# Altium schematic symbol library CW_Schlib.SchLib: 25 symbols (part 1 of 2)
Pins are listed as number, name and electrical type; pins without a type are passive.

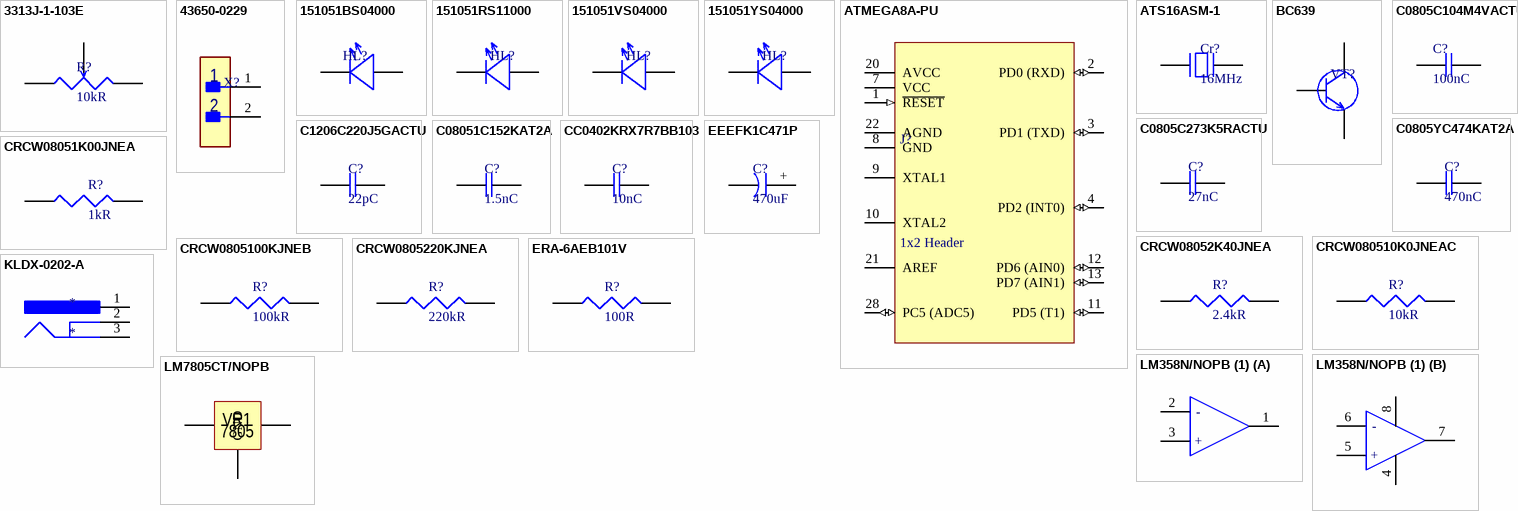
[diagram p0: symbols 3313J-1-103E to LM7805CT/NOPB]

## 3313J-1-103E
designator R?, comment 10kR
BOURNS 3313J-1-103E             TRIMMER, 10KOHM, 125mW, SMD; Tolerance: 20%; Number of Turns: 1; Temperature Coefficient: 100ppm/°C; Voltage Rating (DC): 500V; Insulation Resistance: 100MR; Supplier 1: Digi-Key; Supplier Part Number 1: 3313J-103ECT-ND; Manufacturer: Bourns; Manufacturer Part Number: 3313J-1-103E; RoHS: Yes; Category: Variable Resistors and Potentiometers; Stock 1: 968; Pricing 1: 1=1,82000, 10=1,59500, 25=1,43000, 50=1,37500, 100=1,32000, 250=1,26500, 500=1,04500 (USD); Mount: Surface Mount; Weight: 283mg; Color: Natural; Min Operating Temperature: -55°C; Max Operating Temperature: 125°C; Package Quantity: 1000; Resistance: 10kR; Power Rating: 125mW; Packaging: Tape and Reel; Resistor Type: Cermet; Termination: J-Hook; Max Power Dissipation: 125mW; Series: Trimpot® 3313 - Sealed; Technology: CERMET; Taper: Linear; Type: Potentiometer; Resistance Tolerance: 20%; Length: 3.2mm; Width: 0.126inch; Height: 2.2mm; Depth: 3.5mm; Radiation Hardening: No; Military Standard: Not; REACH SVHC: No SVHC; Lead Free: Lead Free; RoHS Compliant: Yes; ComponentLink1URL: https://datasheet.ciiva.com/6197/1719390-6197392.pdf?src-supplier=Farnell; ComponentLink1Description: https://datasheet.ciiva.com/6197/1719390-6197392.pdf?src-supplier=Farnell; ComponentLink2URL: https://datasheet.ciiva.com/11831/0900766b80dbb89c-11831555.pdf?src-supplier=RSComponents; ComponentLink2Description: https://datasheet.ciiva.com/11831/0900766b80dbb89c-11831555.pdf?src-supplier=RSComponents; ComponentLink3URL: https://datasheet.ciiva.com/2156/3313-2156354.pdf?src-supplier=Digi-Key; ComponentLink3Description: https://datasheet.ciiva.com/2156/3313-2156354.pdf?src-supplier=Digi-Key; ComponentLink4URL: https://datasheet.ciiva.com/2156/3313-2156355.pdf?src-supplier=Digi-Key; ComponentLink4Description: https://datasheet.ciiva.com/2156/3313-2156355.pdf?src-supplier=Digi-Key; ComponentLink5URL: https://datasheet.ciiva.com/2156/3313-2156356.pdf?src-supplier=Digi-Key; ComponentLink5Description: https://datasheet.ciiva.com/2156/3313-2156356.pdf?src-supplier=Digi-Key; ComponentLink6URL: https://datasheet.ciiva.com/43573/1157501-43573718.pdf?src-supplier=Jameco; ComponentLink6Description: https://datasheet.ciiva.com/43573/1157501-43573718.pdf?src-supplier=Jameco; ComponentLink7URL: https://datasheet.ciiva.com/28659/1770668-28659191.pdf?src-supplier=Element14; ComponentLink7Description: https://datasheet.ciiva.com/28659/1770668-28659191.pdf?src-supplier=Element14; ComponentLink8URL: https://datasheet.ciiva.com/16812/3313-16812088.pdf?src-supplier=Avnet+Europe; ComponentLink8Description: https://datasheet.ciiva.com/16812/3313-16812088.pdf?src-supplier=Avnet+Europe; ComponentLink9URL: https://datasheet.ciiva.com/7953/1864507-7953225.pdf?src-supplier=Element14; ComponentLink9Description: https://datasheet.ciiva.com/7953/1864507-7953225.pdf?src-supplier=Element14; ComponentLink10URL: https://datasheet.ciiva.com/16715/70153423-16715693.pdf?src-supplier=Allied+Electronics; ComponentLink10Description: https://datasheet.ciiva.com/16715/70153423-16715693.pdf?src-supplier=Allied+Electronics
footprint Potentiometer
pins: 1, 2, 3

## 43650-0229
designator X?, comment ConnectorAudio  (value not drawn)
MOLEX - 43650-0229 - Wire-To-Board Connector, 3 mm, 2 Contacts, Header, Micro-Fit 3.0 43650 Series, Through Hole, 1 Rows; Number of Contacts: 2; Gender: Male; Voltage Rating: 600V; Current Rating: 5A; Pitch: 3mm; Glow Wire Compliant: Compliant; Supplier 1: Digi-Key; Supplier Part Number 1: WM10662-ND; Manufacturer: Molex; Manufacturer Part Number: 43650-0229; RoHS: Yes; Category: Headers and Wire Housings; Stock 1: 5963; Pricing 1: 1=1,21000, 10=1,00100, 440=0,83407, 3264=0,60469, 6528=0,58384, 13056=0,54214 (USD); Mount: Through Hole; Contact Plating: Gold; Contact Material: Brass; Housing Material: Thermoplastic; Packaging: Tray; Termination: Through Hole; Orientation: Vertical; Package Quantity: 3264; Series: 43650; Number of Rows: 1; Number of Positions: 2; Number of Circuits: 2; Radiation Hardening: No; RoHS Compliant: Yes; Halogen Free: Low Halogen; ComponentLink1URL: https://datasheet.ciiva.com/13564/0436500229-pcb-headers-148697-13564517.pdf?src-supplier=Mouser; ComponentLink1Description: https://datasheet.ciiva.com/13564/0436500229-pcb-headers-148697-13564517.pdf?src-supplier=Mouser; ComponentLink2URL: https://datasheet.ciiva.com/16654/0436500229-pcb-headers-16654485.pdf?src-supplier=Avnet+Europe; ComponentLink2Description: https://datasheet.ciiva.com/16654/0436500229-pcb-headers-16654485.pdf?src-supplier=Avnet+Europe
footprint AudioConnector
pins: 1, 2

## 151051BS04000
designator HL?, comment blue led  (value not drawn)
WURTH ELEKTRONIK - 151051BS04000 - LED, 5MM, BLUE, 500MCD, 470NM; Manufacturer: Wurth Electronics; Lens Style: Diffused,Circular,Round; Forward Voltage: 3.2V; Forward Current: 30mA; Viewing Angle: 40°; Test Current: 20mA; Supplier 1: Digi-Key; Supplier Part Number 1: 732-5015-ND; Manufacturer Part Number: 151051BS04000; RoHS: Yes; Category: LEDs; Stock 1: 14295; Pricing 1: 1=0,25000, 50=0,23000, 100=0,19800, 500=0,18600 (USD); Mount: Through Hole; Case/Package: Radial; Color: Blue; Min Operating Temperature: -40°C; Max Operating Temperature: 85°C; Packaging: Bulk; Luminous Intensity: 500mcd; Dominant Wavelength: 470nm; Package Quantity: 1; Wavelength: 470nm; Height: 8.9mm; Lens Size: 5mm; RoHS Compliant: Yes; REACH SVHC: Unknown; ComponentLink1URL: https://datasheet.ciiva.com/23843/151051bs04000-23843280.pdf?src-supplier=Newark; ComponentLink1Description: https://datasheet.ciiva.com/23843/151051bs04000-23843280.pdf?src-supplier=Newark; ComponentLink2URL: https://datasheet.ciiva.com/29363/759492-da-01-en-tht-led-5mm-blau-151051bs04000-29363825.pdf?src-supplier=Conrad; ComponentLink2Description: https://datasheet.ciiva.com/29363/759492-da-01-en-tht-led-5mm-blau-151051bs04000-29363825.pdf?src-supplier=Conrad; ComponentLink3URL: https://datasheet.ciiva.com/29562/151051bs04000-29562902.pdf?src-supplier=Digi-Key; ComponentLink3Description: https://datasheet.ciiva.com/29562/151051bs04000-29562902.pdf?src-supplier=Digi-Key
footprint LEDblue
pins: 1 -, 2 +

## 151051RS11000
designator HL?, comment red led  (value not drawn)
WURTH ELEKTRONIK - 151051RS11000 - LED, Red, Through Hole, T-1 3/4 (5mm), 30 mA, 2.1 V, 630 nm; Manufacturer: Wurth Electronics; Forward Voltage: 2.1V; Test Current: 20mA; Luminous Intensity: 30mcd; Viewing Angle: 60°; Lens Style: Diffused,Round,Circular; Dominant Wavelength: 645nm; Forward Current: 30mA; Wavelength: 630nm; Supplier 1: Digi-Key; Supplier Part Number 1: 732-5016-ND; Manufacturer Part Number: 151051RS11000; RoHS: Yes; Category: LEDs; Stock 1: 6443; Pricing 1: 1=0,16000, 50=0,14500, 100=0,12500, 500=0,12000 (USD); Mount: Through Hole; Case/Package: Radial; Color: Red; Min Operating Temperature: -40°C; Max Operating Temperature: 85°C; Package Quantity: 1; Height: 8.9mm; Lens Size: 5mm; RoHS Compliant: Yes; REACH SVHC: Unknown; ComponentLink1URL: https://datasheet.ciiva.com/23843/151051rs11000-23843281.pdf?src-supplier=Newark; ComponentLink1Description: https://datasheet.ciiva.com/23843/151051rs11000-23843281.pdf?src-supplier=Newark; ComponentLink2URL: https://datasheet.ciiva.com/29335/759488-da-01-en-tht-led-5mm-rot-151051rs11000-29335455.pdf?src-supplier=Conrad; ComponentLink2Description: https://datasheet.ciiva.com/29335/759488-da-01-en-tht-led-5mm-rot-151051rs11000-29335455.pdf?src-supplier=Conrad; ComponentLink3URL: https://datasheet.ciiva.com/22657/1911506-22657034.pdf?src-supplier=Element14; ComponentLink3Description: https://datasheet.ciiva.com/22657/1911506-22657034.pdf?src-supplier=Element14; ComponentLink4URL: https://datasheet.ciiva.com/29562/151051rs11000-29562906.pdf?src-supplier=Digi-Key; ComponentLink4Description: https://datasheet.ciiva.com/29562/151051rs11000-29562906.pdf?src-supplier=Digi-Key
footprint LEDred
pins: 1 -, 2 +

## 151051VS04000
designator HL?, comment green led  (value not drawn)
WURTH ELEKTRONIK - 151051VS04000 - LED, Green, Through Hole, T-1 3/4 (5mm), 30 mA, 2.1 V, 572 nm; Manufacturer: Wurth Electronics; Forward Voltage: 2.1V; Luminous Intensity: 140mcd; Forward Current: 30mA; Lens Style: Diffused,Circular,Round; Test Current: 20mA; Dominant Wavelength: 572nm; Viewing Angle: 40°; Supplier 1: Digi-Key; Supplier Part Number 1: 732-5017-ND; Manufacturer Part Number: 151051VS04000; RoHS: Yes; Category: LEDs; Stock 1: 5536; Pricing 1: 1=0,25000, 50=0,23000, 100=0,19800, 500=0,18600 (USD); Mount: Through Hole; Case/Package: Radial; Color: Green; Min Operating Temperature: -40°C; Max Operating Temperature: 85°C; Package Quantity: 1; Wavelength: 572nm; Height: 8.9mm; Lens Size: 5mm; RoHS Compliant: Yes; REACH SVHC: Unknown; ComponentLink1URL: https://datasheet.ciiva.com/23843/151051vs04000-23843282.pdf?src-supplier=Newark; ComponentLink1Description: https://datasheet.ciiva.com/23843/151051vs04000-23843282.pdf?src-supplier=Newark; ComponentLink2URL: https://datasheet.ciiva.com/29363/759491-da-01-en-tht-led-5mm-b-gruen-151051vs04000-29363828.pdf?src-supplier=Conrad; ComponentLink2Description: https://datasheet.ciiva.com/29363/759491-da-01-en-tht-led-5mm-b-gruen-151051vs04000-29363828.pdf?src-supplier=Conrad; ComponentLink3URL: https://datasheet.ciiva.com/29562/151051vs04000-29562903.pdf?src-supplier=Digi-Key; ComponentLink3Description: https://datasheet.ciiva.com/29562/151051vs04000-29562903.pdf?src-supplier=Digi-Key; ComponentLink4URL: https://datasheet.ciiva.com/48429/151051vs04000-eng-tds-48429978.pdf?src-supplier=Distrelec; ComponentLink4Description: https://datasheet.ciiva.com/48429/151051vs04000-eng-tds-48429978.pdf?src-supplier=Distrelec
footprint LEDgreen
pins: 1 -, 2 +

## 151051YS04000
designator HL?, comment yellow led  (value not drawn)
WURTH ELEKTRONIK - 151051YS04000 - LED, Yellow, Through Hole, T-1 3/4 (5mm), 30 mA, 2 V, 590 nm; Manufacturer: Wurth Electronics; Luminous Intensity: 450mcd; Viewing Angle: 40°; Forward Voltage: 2V; Lens Style: Diffused,Round,Circular; Test Current: 20mA; Forward Current: 30mA; Wavelength: 590nm; Supplier 1: Digi-Key; Supplier Part Number 1: 732-5018-ND; Manufacturer Part Number: 151051YS04000; RoHS: Yes; Category: LEDs; Stock 1: 1858; Pricing 1: 1=0,21000, 50=0,19800, 100=0,17100, 500=0,16050 (USD); Mount: Through Hole; Case/Package: Radial; Color: Yellow; Min Operating Temperature: -40°C; Max Operating Temperature: 85°C; Package Quantity: 1; Dominant Wavelength: 590nm; Height: 8.9mm; Lens Size: 5mm; RoHS Compliant: Yes; REACH SVHC: Unknown; ComponentLink1URL: https://datasheet.ciiva.com/29562/151051ys04000-29562897.pdf?src-supplier=Digi-Key; ComponentLink1Description: https://datasheet.ciiva.com/29562/151051ys04000-29562897.pdf?src-supplier=Digi-Key; ComponentLink2URL: https://datasheet.ciiva.com/29335/759489-da-01-en-tht-led-5mm-gelb-151051ys04000-29335459.pdf?src-supplier=Conrad; ComponentLink2Description: https://datasheet.ciiva.com/29335/759489-da-01-en-tht-led-5mm-gelb-151051ys04000-29335459.pdf?src-supplier=Conrad; ComponentLink3URL: https://datasheet.ciiva.com/48429/151051ys04000-eng-tds-48429979.pdf?src-supplier=Distrelec; ComponentLink3Description: https://datasheet.ciiva.com/48429/151051ys04000-eng-tds-48429979.pdf?src-supplier=Distrelec
footprint LEDyellow
pins: 1 -, 2 +

## ATMEGA8A-PU
designator J?, comment 1x2 Header
MCU 8-bit ATmega AVR RISC 8KB Flash 3.3V/5V 28-Pin PDIP; Manufacturer: Microchip / Atmel; Manufacturer Part Number: ATMEGA8A-PU; Frequency: 16MHz; Interface: SPI,USART,I2C,UART; Number of I/Os: 23; Oscillator Type: Internal; Peripherals: Brown-out Detect/Reset,POR,PWM,WDT; RAM Size: 1KB; Max Supply Voltage: 5.5V; Min Supply Voltage: 2.7V; Number of Timers/Counters: 3; Number of ADC Channels: 6; Data Bus Width: 8b; Number of SPI Channels: 1; Watchdog Timer: Yes; RoHS: Yes; Category: Microcontrollers; Stock 1: 7653; Pricing 1: 1=2,66000, 25=2,43120, 100=2,20000 (USD); Mount: Through Hole; Case/Package: PDIP; Number of Pins: 28; Contact Plating: Tin,Matte; Min Operating Temperature: -40°C; Max Operating Temperature: 85°C; Core Architecture: AVR; Packaging: Rail/Tube; Package Quantity: 14; Memory Type: FLASH; Memory Size: 8KB; Number of PWM Channels: 3; Number of Programmable I/O: 23; Max Frequency: 16MHz; Number of I2C Channels: 1; Series: AVR® ATmega; Length: 34.8mm; Width: 7.49mm; Height: 4.572mm; Radiation Hardening: No; REACH SVHC: No SVHC; Lead Free: Lead Free; RoHS Compliant: Yes; ComponentLink1URL: https://datasheet.ciiva.com/15213/getdatasheetpartid-316011-15213203.pdf?src-supplier=Verical; ComponentLink1Description: https://datasheet.ciiva.com/15213/getdatasheetpartid-316011-15213203.pdf?src-supplier=Verical; ComponentLink2URL: https://datasheet.ciiva.com/26818/atmega8a-pu-26818556.pdf?src-supplier=IIIC; ComponentLink2Description: https://datasheet.ciiva.com/26818/atmega8a-pu-26818556.pdf?src-supplier=IIIC; ComponentLink3URL: https://datasheet.ciiva.com/24154/atmel-8159-8-bit-avr-microcontroller-atmega8a-summary-24154172.pdf?src-supplier=Future+Electronics; ComponentLink3Description: https://datasheet.ciiva.com/24154/atmel-8159-8-bit-avr-microcontroller-atmega8a-summary-24154172.pdf?src-supplier=Future+Electronics; ComponentLink4URL: https://datasheet.ciiva.com/6658/8159s-6658029.pdf?src-supplier=Digi-Key; ComponentLink4Description: https://datasheet.ciiva.com/6658/8159s-6658029.pdf?src-supplier=Digi-Key; Parameter 1: *; Parameter 2: *; Supplier 1: Digi-Key; Supplier Part Number 1: ATMEGA8A-PU-ND
footprint ATmega8
pins: 1 ~{RESET} (in), 2 PD0 (RXD) (io), 3 PD1 (TXD) (io), 4 PD2 (INT0) (io), 7 VCC (power), 8 GND (power), 9 XTAL1, 10 XTAL2, 11 PD5 (T1) (io), 12 PD6 (AIN0) (io), 13 PD7 (AIN1) (io), 20 AVCC (power), 21 AREF, 22 AGND (power), 28 PC5 (ADC5) (io)

## ATS16ASM-1
designator Cr?, comment 16MHz
CRYSTAL 16.0MHZ 20PF SMD; Manufacturer: CTS; Manufacturer Part Number: ATS16ASM-1; Frequency Tolerance: 30ppm; ESR (Equivalent Series Resistance): 40R; Frequency Stability: 50ppm; Supplier 1: Digi-Key; Supplier Part Number 1: CTX1440CT-ND; RoHS: Yes; Category: Crystals; Stock 1: 949; Pricing 1: 1=0,37000, 10=0,30500, 50=0,27440, 100=0,24400, 500=0,23180 (USD); Mount: Surface Mount; Number of Pins: 2; Min Operating Temperature: -20°C; Max Operating Temperature: 70°C; Frequency: 16MHz; Load Capacitance: 20pF; Packaging: Tape and Reel; Package Quantity: 1000; Tolerance: 30ppm; Termination: SMD/SMT; Series: ATS-SM; Series Resistance: 40R; Length: 0.437inch; Width: 0.19inch; Height: 0.169inch; RoHS Compliant: Yes; ComponentLink1URL: https://datasheet.ciiva.com/861/008-0309-0-861005.pdf?src-supplier=Digi-Key; ComponentLink1Description: https://datasheet.ciiva.com/861/008-0309-0-861005.pdf?src-supplier=Digi-Key
footprint Crystal
pins: 1, 2

## BC639
designator VT?  (value not drawn)
TRANS NPN 80V 1A TO-92; Manufacturer: ON Semiconductor / Fairchild; Manufacturer Part Number: BC639; Max Power Dissipation: 625mW; Transition Frequency: 200MHz; Emitter Base Voltage (VEBO): 5V; Collector Emitter Saturation Voltage: 500mV; Element Configuration: Single; Frequency: 100MHz; hFE Min: 40; Number of Elements: 1; Power Dissipation: 1W; Supplier 1: Avnet; Supplier Part Number 1: BC639; RoHS: No; Category: BJTs; Stock 1: 10708; Pricing 1: 5342=0,06646, 5400=0,06552, 11000=0,06365, 27000=0,06224, 54000=0,05990, 270000=0,05850, 540000=0,05710 (USD); Mount: Through Hole; Case/Package: TO-92; Number of Pins: 3; Contact Plating: Copper,Tin,Silver; Weight: 0.201g; Min Operating Temperature: -55°C; Max Operating Temperature: 150°C; Package Quantity: 5000; Collector Emitter Voltage (VCEO): 80V; Packaging: Bulk; Max Collector Current: 1A; Polarity: NPN; Collector Emitter Breakdown Voltage: 80V; Gain Bandwidth Product: 200MHz; Voltage Rating (DC): 80V; Current Rating: 1A; Collector Base Voltage (VCBO): 80V; Max Breakdown Voltage: 80V; Collector-emitter Voltage-Max: 500mV; Series: -; Termination: Through Hole; Lead Free: Lead Free; REACH SVHC: No SVHC; RoHS Compliant: No; ComponentLink1URL: https://datasheet.ciiva.com/982/bc639-982480.pdf?src-supplier=Digi-Key; ComponentLink1Description: https://datasheet.ciiva.com/982/bc639-982480.pdf?src-supplier=Digi-Key; ComponentLink2URL: https://datasheet.ciiva.com/986/bc635-637-639rev5-986450.pdf?src-supplier=Digi-Key; ComponentLink2Description: https://datasheet.ciiva.com/986/bc635-637-639rev5-986450.pdf?src-supplier=Digi-Key; ComponentLink3URL: https://datasheet.ciiva.com/17179/bc63916-17179413.pdf?src-supplier=Future+Electronics; ComponentLink3Description: https://datasheet.ciiva.com/17179/bc63916-17179413.pdf?src-supplier=Future+Electronics; ComponentLink4URL: https://datasheet.ciiva.com/1195/5224-1195640.pdf?src-supplier=Element14; ComponentLink4Description: https://datasheet.ciiva.com/1195/5224-1195640.pdf?src-supplier=Element14; ComponentLink5URL: https://datasheet.ciiva.com/1195/5224-1195641.pdf?src-supplier=Element14; ComponentLink5Description: https://datasheet.ciiva.com/1195/5224-1195641.pdf?src-supplier=Element14; ComponentLink6URL: https://datasheet.ciiva.com/1217/5224-1217209.pdf?src-supplier=Farnell; ComponentLink6Description: https://datasheet.ciiva.com/1217/5224-1217209.pdf?src-supplier=Farnell
footprint BC639
pins: 1, 2, 3 GND

## C0805C104M4VACTU
designator C?, comment 100nC
CAP CER 0.1UF 16V 20% Y5V 0805; Manufacturer: KEMET; Manufacturer Part Number: C0805C104M4VACTU; Dielectric Material: Ceramic; Capacitance: 100nF; Dissipation Factor: 7%; Supplier 1: Digi-Key; Supplier Part Number 1: 399-9156-1-ND; RoHS: Yes; Category: Ceramic Capacitors; Stock 1: 9052; Pricing 1: 1=0,13000, 10=0,09600, 50=0,05440, 100=0,04500, 500=0,03156, 1000=0,02613 (USD); Mount: Surface Mount; Case/Package: 0805; Case Code (Metric): 2012; Case Code (Imperial): 0805; Min Operating Temperature: -30°C; Max Operating Temperature: 85°C; Package Quantity: 1; Voltage Rating: 16V; Tolerance: 20%; Packaging: Tape and Reel; Voltage Rating (DC): 16V; Dielectric: Y5V; Termination: SMD/SMT; Series: C; Length: 0.079inch; Width: 0.049inch; Height: 0.9mm; Thickness: 0.035inch; Lead Pitch: 0.75mm; Depth: 1.25mm; Lead Free: Lead Free; RoHS Compliant: Yes; ComponentLink1URL: http://www.mouser.com/ds/2/212/KEM_C1005_Y5V_SMD-1101305.pdf?src-supplier=Mouser; ComponentLink1Description: http://www.mouser.com/ds/2/212/KEM_C1005_Y5V_SMD-1101305.pdf?src-supplier=Mouser; ComponentLink2URL: https://api.kemet.com/component-edge/download/datasheet/C0805C104M4VACTU.pdf?src-supplier=Digi-Key; ComponentLink2Description: https://api.kemet.com/component-edge/download/datasheet/C0805C104M4VACTU.pdf?src-supplier=Digi-Key
footprint C100nF
pins: 1, 2

## C0805C273K5RACTU
designator C?, comment 27nC
CAP CER 0.027UF 50V X7R 0805; Manufacturer: KEMET; Manufacturer Part Number: C0805C273K5RACTU; Dielectric Material: Ceramic; Capacitance: 27nF; Tolerance: 10%; Dissipation Factor: 2.5%; Supplier 1: Digi-Key; Supplier Part Number 1: 399-1164-1-ND; RoHS: Yes; Category: Ceramic Capacitors; Stock 1: 100815; Pricing 1: 1=0,11000, 10=0,08100, 50=0,04580, 100=0,03800, 500=0,02666, 1000=0,02207 (USD); Mount: Surface Mount,PCB; Case/Package: 0805; Number of Pins: 2; Case Code (Metric): 2012; Case Code (Imperial): 0805; Min Operating Temperature: -55°C; Max Operating Temperature: 125°C; Voltage Rating: 50V; Packaging: Tape and Reel; Package Quantity: 1; Voltage Rating (DC): 50V; Dielectric: X7R; Termination: SMD/SMT; Series: C; Construction: Flat; Voltage: 50V; Length: 2mm; Width: 0.049inch; Height: 0.78mm; Thickness: 0.035inch; Depth: 1.25mm; Lead Pitch: 0.75mm; Radiation Hardening: No; RoHS Compliant: Yes; REACH SVHC: No SVHC; ComponentLink1URL: https://datasheet.ciiva.com/14593/70095383-14593543.pdf?src-supplier=Allied+Electronics; ComponentLink1Description: https://datasheet.ciiva.com/14593/70095383-14593543.pdf?src-supplier=Allied+Electronics; ComponentLink2URL: https://datasheet.ciiva.com/14592/70095383-14592123.pdf?src-supplier=Allied+Electronics; ComponentLink2Description: https://datasheet.ciiva.com/14592/70095383-14592123.pdf?src-supplier=Allied+Electronics; ComponentLink3URL: https://datasheet.ciiva.com/7842/1918693-7842589.pdf?src-supplier=Element14; ComponentLink3Description: https://datasheet.ciiva.com/7842/1918693-7842589.pdf?src-supplier=Element14; ComponentLink4URL: https://datasheet.ciiva.com/7842/kem-c1002-x7r-smd-7842590.pdf?src-supplier=Element14; ComponentLink4Description: https://datasheet.ciiva.com/7842/kem-c1002-x7r-smd-7842590.pdf?src-supplier=Element14
footprint C27nF
pins: 1, 2

## C0805YC474KAT2A
designator C?, comment 470nC
CAP, X7R, 470NF, 16V, 0805, FULL REEL; Manufacturer: Kyocera AVX; Manufacturer Part Number: 0805YC474KAT2A; Tolerance: 10%; Dissipation Factor: 3.5%; Insulation Resistance: 100GR; Supplier 1: Digi-Key; Supplier Part Number 1: 478-1403-1-ND; RoHS: Yes; Category: Ceramic Capacitors; Stock 1: 8545; Pricing 1: 1=0,27000, 10=0,18100, 50=0,10840, 100=0,09160, 500=0,06268, 1000=0,05544 (USD); Mount: Surface Mount,PCB; Case/Package: 0805; Number of Pins: 2; Case Code (Imperial): 0805; Case Code (Metric): 2012; Contact Plating: Tin,Matte; Min Operating Temperature: -55°C; Max Operating Temperature: 125°C; Packaging: Tape and Reel; Capacitance: 470nF; Voltage Rating: 16V; Dielectric: X7R; Voltage: 16V; Voltage Rating (DC): 16V; Package Quantity: 1; Termination: SMD/SMT; Series: -; Construction: Flat; Length: 2.01mm; Width: 1.25mm; Height: 1.4mm; Depth: 1.25mm; Thickness: 0.055inch; Size: 1.4mm; Radiation Hardening: No; RoHS Compliant: Yes; REACH SVHC: No SVHC; Lead Free: Lead Free; ComponentLink1URL: https://datasheet.ciiva.com/19476/2011221-19476183.pdf?src-supplier=Jameco; ComponentLink1Description: https://datasheet.ciiva.com/19476/2011221-19476183.pdf?src-supplier=Jameco; ComponentLink2URL: https://datasheet.ciiva.com/11786/0900766b80ed4be2-11786321.pdf?src-supplier=RSComponents; ComponentLink2Description: https://datasheet.ciiva.com/11786/0900766b80ed4be2-11786321.pdf?src-supplier=RSComponents; ComponentLink3URL: https://datasheet.ciiva.com/2988/cx7r-2988058.pdf?src-supplier=Avnet; ComponentLink3Description: https://datasheet.ciiva.com/2988/cx7r-2988058.pdf?src-supplier=Avnet; ComponentLink4URL: https://datasheet.ciiva.com/16326/cx7r-16326277.pdf?src-supplier=Future+Electronics; ComponentLink4Description: https://datasheet.ciiva.com/16326/cx7r-16326277.pdf?src-supplier=Future+Electronics; ComponentLink5URL: https://datasheet.ciiva.com/16623/cx7r-16623416.pdf?src-supplier=Avnet+Europe; ComponentLink5Description: https://datasheet.ciiva.com/16623/cx7r-16623416.pdf?src-supplier=Avnet+Europe; ComponentLink6URL: https://datasheet.ciiva.com/16544/cx7r-16544108.pdf?src-supplier=Avnet+Asia; ComponentLink6Description: https://datasheet.ciiva.com/16544/cx7r-16544108.pdf?src-supplier=Avnet+Asia; ComponentLink7URL: https://datasheet.ciiva.com/7812/cx7r-7812207.pdf?src-supplier=Element14; ComponentLink7Description: https://datasheet.ciiva.com/7812/cx7r-7812207.pdf?src-supplier=Element14; ComponentLink8URL: https://datasheet.ciiva.com/152/cx7r-152109.pdf?src-supplier=Digi-Key; ComponentLink8Description: https://datasheet.ciiva.com/152/cx7r-152109.pdf?src-supplier=Digi-Key; ComponentLink9URL: https://datasheet.ciiva.com/152/cx7r-152108.pdf?src-supplier=Digi-Key; ComponentLink9Description: https://datasheet.ciiva.com/152/cx7r-152108.pdf?src-supplier=Digi-Key; ComponentLink10URL: https://datasheet.ciiva.com/152/cx7r-152110.pdf?src-supplier=Digi-Key; ComponentLink10Description: https://datasheet.ciiva.com/152/cx7r-152110.pdf?src-supplier=Digi-Key; ComponentLink11URL: https://datasheet.ciiva.com/5416/cx7r-218113-5416693.pdf?src-supplier=Mouser; ComponentLink11Description: https://datasheet.ciiva.com/5416/cx7r-218113-5416693.pdf?src-supplier=Mouser; ComponentLink12URL: https://datasheet.ciiva.com/14590/70001075-14590213.pdf?src-supplier=Allied+Electronics; ComponentLink12Description: https://datasheet.ciiva.com/14590/70001075-14590213.pdf?src-supplier=Allied+Electronics; ComponentLink13URL: https://datasheet.ciiva.com/14602/70001075-14602165.pdf?src-supplier=Allied+Electronics; ComponentLink13Description: https://datasheet.ciiva.com/14602/70001075-14602165.pdf?src-supplier=Allied+Electronics
footprint C470nF
pins: 1, 2

## C1206C220J5GACTU
designator C?, comment 22pC
1206 22pF Ceramic Multilayer Capacitor; 50VDC; 125degC; C0G Dielec; +/-5% SMD; Manufacturer: KEMET; Manufacturer Part Number: C1206C220J5GACTU; Tolerance: 5%; Voltage Rating: 50V; Temperature Coefficient: 30ppm/°C; Dissipation Factor: 0.1%; Supplier 1: Digi-Key; Supplier Part Number 1: 399-1197-1-ND; RoHS: Yes; Category: Ceramic Capacitors; Stock 1: 60049; Pricing 1: 1=0,25000, 10=0,16700, 50=0,10040, 100=0,08480, 500=0,05800, 1000=0,05131 (USD); Mount: Surface Mount,PCB; Case/Package: 1206; Case Code (Imperial): 1206; Case Code (Metric): 3216; Dielectric Material: Ceramic; Contact Material: Tin; Min Operating Temperature: -55°C; Max Operating Temperature: 125°C; Capacitance: 22pF; Packaging: Tape and Reel; Dielectric: C0G; Termination: SMD/SMT; Package Quantity: 1; Voltage: 50V; Voltage Rating (DC): 50V; Series: C; Construction: Flat; Length: 3.2mm; Width: 1.6mm; Height: 0.78mm; Depth: 1.6mm; Thickness: 0.035inch; Radiation Hardening: No; REACH SVHC: No SVHC; RoHS Compliant: Yes; Lead Free: Lead Free; ComponentLink1URL: https://datasheet.ciiva.com/6177/1776099-6177664.pdf?src-supplier=Farnell; ComponentLink1Description: https://datasheet.ciiva.com/6177/1776099-6177664.pdf?src-supplier=Farnell; ComponentLink2URL: https://datasheet.ciiva.com/145/docfinderpartnumber-c1206c220j5gactu-145591.pdf?src-supplier=Digi-Key; ComponentLink2Description: https://datasheet.ciiva.com/145/docfinderpartnumber-c1206c220j5gactu-145591.pdf?src-supplier=Digi-Key; ComponentLink3URL: https://datasheet.ciiva.com/7729/1776099-7729850.pdf?src-supplier=Element14; ComponentLink3Description: https://datasheet.ciiva.com/7729/1776099-7729850.pdf?src-supplier=Element14; ComponentLink4URL: https://datasheet.ciiva.com/28668/1789732-28668845.pdf?src-supplier=Element14; ComponentLink4Description: https://datasheet.ciiva.com/28668/1789732-28668845.pdf?src-supplier=Element14; ComponentLink5URL: https://datasheet.ciiva.com/14593/70095383-14593639.pdf?src-supplier=Allied+Electronics; ComponentLink5Description: https://datasheet.ciiva.com/14593/70095383-14593639.pdf?src-supplier=Allied+Electronics; ComponentLink6URL: https://datasheet.ciiva.com/14608/70095383-14608661.pdf?src-supplier=Allied+Electronics; ComponentLink6Description: https://datasheet.ciiva.com/14608/70095383-14608661.pdf?src-supplier=Allied+Electronics; ComponentLink7URL: https://datasheet.ciiva.com/2988/kem-c1003-c0g-smd-2988752.pdf?src-supplier=Avnet; ComponentLink7Description: https://datasheet.ciiva.com/2988/kem-c1003-c0g-smd-2988752.pdf?src-supplier=Avnet; ComponentLink8URL: https://datasheet.ciiva.com/2988/kem-c1003-c0g-smd-2988751.pdf?src-supplier=Avnet; ComponentLink8Description: https://datasheet.ciiva.com/2988/kem-c1003-c0g-smd-2988751.pdf?src-supplier=Avnet; ComponentLink9URL: https://datasheet.ciiva.com/18102/getdatasheetpartid-68144-18102364.pdf?src-supplier=Verical; ComponentLink9Description: https://datasheet.ciiva.com/18102/getdatasheetpartid-68144-18102364.pdf?src-supplier=Verical; ComponentLink10URL: https://datasheet.ciiva.com/11649/kem-c1003-c0g-smd-11649994.pdf?src-supplier=Avnet; ComponentLink10Description: https://datasheet.ciiva.com/11649/kem-c1003-c0g-smd-11649994.pdf?src-supplier=Avnet
footprint C22pF
pins: 1, 2

## C08051C152KAT2A
designator C?, comment 1.5nC
0805 1.5nF Ceramic Multilayer Capacitor,  100 VDC,  +125degC,  X7R Dielec,  +/-10%; Manufacturer: Kyocera AVX; Manufacturer Part Number: 08051C152KAT2A; Tolerance: 10%; Voltage Rating (DC): 100V; Dissipation Factor: 2.5%; Insulation Resistance: 100GR; Supplier 1: Digi-Key; Supplier Part Number 1: 478-1353-1-ND; RoHS: Yes; Category: Ceramic Capacitors; Stock 1: 214; Pricing 1: 1=0,19000, 10=0,13200, 50=0,07480, 100=0,06200, 500=0,04350, 1000=0,03601 (USD); Mount: Surface Mount,PCB; Case/Package: 0805; Number of Pins: 2; Case Code (Metric): 2012; Case Code (Imperial): 0805; Dielectric Material: Ceramic; Contact Plating: Tin,Matte; Min Operating Temperature: -55°C; Max Operating Temperature: 125°C; Packaging: Tape and Reel; Capacitance: 1.5nF; Package Quantity: 1; Dielectric: X7R; Voltage Rating: 100V; Termination: SMD/SMT; Voltage: 100V; Length: 2.01mm; Width: 0.049inch; Height: 0.94mm; Thickness: 0.037inch; Depth: 1.25mm; Radiation Hardening: No; RoHS Compliant: Yes; REACH SVHC: No SVHC; Lead Free: Lead Free; ComponentLink1URL: https://datasheet.ciiva.com/150/cx7r-150629.pdf?src-supplier=Digi-Key; ComponentLink1Description: https://datasheet.ciiva.com/150/cx7r-150629.pdf?src-supplier=Digi-Key; ComponentLink2URL: https://datasheet.ciiva.com/150/cx7r-150630.pdf?src-supplier=Digi-Key; ComponentLink2Description: https://datasheet.ciiva.com/150/cx7r-150630.pdf?src-supplier=Digi-Key; ComponentLink3URL: https://datasheet.ciiva.com/150/cx7r-150631.pdf?src-supplier=Digi-Key; ComponentLink3Description: https://datasheet.ciiva.com/150/cx7r-150631.pdf?src-supplier=Digi-Key; ComponentLink4URL: https://datasheet.ciiva.com/7811/cx7r-7811928.pdf?src-supplier=Element14; ComponentLink4Description: https://datasheet.ciiva.com/7811/cx7r-7811928.pdf?src-supplier=Element14; ComponentLink5URL: https://datasheet.ciiva.com/7811/cx7r-7811929.pdf?src-supplier=Element14; ComponentLink5Description: https://datasheet.ciiva.com/7811/cx7r-7811929.pdf?src-supplier=Element14; ComponentLink6URL: https://datasheet.ciiva.com/7811/cx7r-7811930.pdf?src-supplier=Element14; ComponentLink6Description: https://datasheet.ciiva.com/7811/cx7r-7811930.pdf?src-supplier=Element14
footprint C1.5nF
pins: 1, 2

## CC0402KRX7R7BB103
designator C?, comment 10nC
CAP CER 10000PF 16V X7R 0402; Manufacturer: Yageo; Manufacturer Part Number: CC0402KRX7R7BB103; Capacitance: 10nF; Tolerance: 10%; Insulation Resistance: 10GR; Dissipation Factor: 3.5%; Supplier 1: Future Electronics; Supplier Part Number 1: 9410754; RoHS: Yes; Category: Ceramic Capacitors; Stock 1: 39464018; Pricing 1: 1=0,00300, 500=0,00220, 1500=0,00210, 2500=0,00200, 5000=0,00200 (USD); Mount: Surface Mount; Case/Package: 0402; Number of Pins: 2; Case Code (Metric): 1005; Case Code (Imperial): 0402; Min Operating Temperature: -55°C; Max Operating Temperature: 125°C; Packaging: Tape and Reel; Voltage Rating (DC): 16V; Dielectric: X7R; Voltage: 16V; Package Quantity: 1; Voltage Rating: 16V; Termination: SMD/SMT; Series: CC; Length: 1mm; Width: 0.02inch; Height: 0.5mm; Thickness: 0.022inch; Depth: 0.5mm; Radiation Hardening: No; REACH SVHC: No SVHC; Lead Free: Lead Free; RoHS Compliant: Yes; Halogen Free: Halogen Free; ComponentLink1URL: https://datasheet.ciiva.com/143/upy-gphc-x7r-6-3v-to-50v-8-143952.pdf?src-supplier=Digi-Key; ComponentLink1Description: https://datasheet.ciiva.com/143/upy-gphc-x7r-6-3v-to-50v-8-143952.pdf?src-supplier=Digi-Key; ComponentLink2URL: https://datasheet.ciiva.com/143/mlccorderingcode-143950.pdf?src-supplier=Digi-Key; ComponentLink2Description: https://datasheet.ciiva.com/143/mlccorderingcode-143950.pdf?src-supplier=Digi-Key; ComponentLink3URL: https://datasheet.ciiva.com/143/mlccorderingcode-143951.pdf?src-supplier=Digi-Key; ComponentLink3Description: https://datasheet.ciiva.com/143/mlccorderingcode-143951.pdf?src-supplier=Digi-Key; ComponentLink4URL: https://datasheet.ciiva.com/16625/upy-gphc-x7r-6-3v-to-50v-8-16625510.pdf?src-supplier=Avnet+Europe; ComponentLink4Description: https://datasheet.ciiva.com/16625/upy-gphc-x7r-6-3v-to-50v-8-16625510.pdf?src-supplier=Avnet+Europe; ComponentLink5URL: https://datasheet.ciiva.com/8033/70765-8033655.pdf?src-supplier=Element14; ComponentLink5Description: https://datasheet.ciiva.com/8033/70765-8033655.pdf?src-supplier=Element14; ComponentLink6URL: https://datasheet.ciiva.com/8033/1489800-8033658.pdf?src-supplier=Element14; ComponentLink6Description: https://datasheet.ciiva.com/8033/1489800-8033658.pdf?src-supplier=Element14; ComponentLink7URL: https://datasheet.ciiva.com/28450/1489800-28450330.pdf?src-supplier=Element14; ComponentLink7Description: https://datasheet.ciiva.com/28450/1489800-28450330.pdf?src-supplier=Element14; ComponentLink8URL: https://datasheet.ciiva.com/8033/1489800-8033659.pdf?src-supplier=Element14; ComponentLink8Description: https://datasheet.ciiva.com/8033/1489800-8033659.pdf?src-supplier=Element14; ComponentLink9URL: https://datasheet.ciiva.com/7978/1489800-7978109.pdf?src-supplier=Element14; ComponentLink9Description: https://datasheet.ciiva.com/7978/1489800-7978109.pdf?src-supplier=Element14; ComponentLink10URL: https://datasheet.ciiva.com/5425/upy-gp-np0-16v-to-50v-8-3714-5425438.pdf?src-supplier=Mouser; ComponentLink10Description: https://datasheet.ciiva.com/5425/upy-gp-np0-16v-to-50v-8-3714-5425438.pdf?src-supplier=Mouser
footprint C10nF
pins: 1, 2

## CRCW08051K00JNEA
designator R?, comment 1kR
Res Thick Film 0805 1K Ohm 5% 1/8W 200ppm/C Molded SMD SMD Paper T/R; Manufacturer: Vishay Dale; Manufacturer Part Number: CRCW08051K00JNEA; Power Rating: 125mW; Voltage Rating: 150V; Temperature Coefficient: 200ppm/°C; Supplier 1: Digi-Key; Supplier Part Number 1: 541-1.0KACT-ND; RoHS: Yes; Category: Chip SMD Resistors; Stock 1: 2818; Pricing 1: 1=0,10000, 10=0,04200, 100=0,01700, 1000=0,00762, 2500=0,00661 (USD); Mount: Surface Mount; Case/Package: 0805; Number of Pins: 2; Weight: 0.000194oz; Case Code (Imperial): 0805; Case Code (Metric): 2012; Contact Plating: Tin; Size Code: 0805; Min Operating Temperature: -55°C; Max Operating Temperature: 155°C; Packaging: Tape and Reel; Resistance: 1kR; Tolerance: 5%; Package Quantity: 1; Resistor Type: Thick Film; Number of Terminations: 2; Termination: SMD/SMT; Max Power Dissipation: 125mW; Voltage Rating (DC): 150V; Features: Automotive AEC-Q200; Series: CRCW; Construction: Rectangular; Resistance Tolerance: 5%; Length: 2mm; Width: 1.25mm; Height: 0.02inch; Depth: 1.25mm; Radiation Hardening: No; REACH SVHC: Unknown; Military Standard: Not; Lead Free: Lead Free; RoHS Compliant: Yes; ComponentLink1URL: https://datasheet.ciiva.com/8337/dcrcwe3-8337669.pdf?src-supplier=Avnet; ComponentLink1Description: https://datasheet.ciiva.com/8337/dcrcwe3-8337669.pdf?src-supplier=Avnet; ComponentLink2URL: https://datasheet.ciiva.com/5544/dcrcwe3-109170-5544649.pdf?src-supplier=Mouser; ComponentLink2Description: https://datasheet.ciiva.com/5544/dcrcwe3-109170-5544649.pdf?src-supplier=Mouser; ComponentLink3URL: https://datasheet.ciiva.com/2463/dcrcwe3-2463178.pdf?src-supplier=Digi-Key; ComponentLink3Description: https://datasheet.ciiva.com/2463/dcrcwe3-2463178.pdf?src-supplier=Digi-Key; ComponentLink4URL: https://datasheet.ciiva.com/2463/dcrcwe3-2463179.pdf?src-supplier=Digi-Key; ComponentLink4Description: https://datasheet.ciiva.com/2463/dcrcwe3-2463179.pdf?src-supplier=Digi-Key; ComponentLink5URL: https://datasheet.ciiva.com/46441/1533075-46441628.pdf?src-supplier=Element14; ComponentLink5Description: https://datasheet.ciiva.com/46441/1533075-46441628.pdf?src-supplier=Element14; ComponentLink6URL: https://datasheet.ciiva.com/3258/dcrcwe3-3258221.pdf?src-supplier=Avnet; ComponentLink6Description: https://datasheet.ciiva.com/3258/dcrcwe3-3258221.pdf?src-supplier=Avnet; ComponentLink7URL: https://datasheet.ciiva.com/16755/70201119-16755757.pdf?src-supplier=Allied+Electronics; ComponentLink7Description: https://datasheet.ciiva.com/16755/70201119-16755757.pdf?src-supplier=Allied+Electronics; ComponentLink8URL: https://datasheet.ciiva.com/16435/dcrcwe3-16435934.pdf?src-supplier=Future+Electronics; ComponentLink8Description: https://datasheet.ciiva.com/16435/dcrcwe3-16435934.pdf?src-supplier=Future+Electronics; ComponentLink9URL: https://datasheet.ciiva.com/17204/dcrcwe3-17204398.pdf?src-supplier=Avnet+Europe; ComponentLink9Description: https://datasheet.ciiva.com/17204/dcrcwe3-17204398.pdf?src-supplier=Avnet+Europe; Parameter 1: *; Parameter 2: *; Parameter 3: *; Parameter 4: *
footprint R1kOhm
pins: 1, 2

## CRCW08052K40JNEA
designator R?, comment 2.4kR
Resistor,Metal Glaze,2.4KOhms,150WV,5+/-% Tol,-200,200ppm-TC,0805-Case ;RoHS Compliant: Yes; Manufacturer: Vishay Dale; Manufacturer Part Number: CRCW08052K40JNEA; Tolerance: 5%; Power Rating: 125mW; Voltage Rating: 150V; Temperature Coefficient: 200ppm/°C; Supplier 1: Digi-Key; Supplier Part Number 1: 541-2.4KACT-ND; RoHS: Yes; Category: Chip SMD Resistors; Stock 1: 1280; Pricing 1: 1=0,10000, 10=0,04200, 100=0,01700, 1000=0,00762, 2500=0,00661 (USD); Case/Package: 0805; Number of Pins: 2; Weight: 0.000194oz; Case Code (Imperial): 0805; Case Code (Metric): 2012; Contact Plating: Tin; Size Code: 0805; Min Operating Temperature: -55°C; Max Operating Temperature: 155°C; Resistance: 2.4kR; Packaging: Tape and Reel; Package Quantity: 1; Termination: SMD/SMT; Resistor Type: Thick Film; Number of Terminations: 2; Max Power Dissipation: 125mW; Voltage Rating (DC): 150V; Features: Automotive AEC-Q200; Series: CRCW; Construction: Rectangular; Resistance Tolerance: 5%; Length: 2mm; Width: 1.25mm; Height: 0.02inch; Depth: 1.25mm; Radiation Hardening: No; REACH SVHC: Unknown; Military Standard: Not; Lead Free: Lead Free; RoHS Compliant: Yes; ComponentLink1URL: https://datasheet.ciiva.com/2525/dcrcwe3-2525095.pdf?src-supplier=Digi-Key; ComponentLink1Description: https://datasheet.ciiva.com/2525/dcrcwe3-2525095.pdf?src-supplier=Digi-Key; ComponentLink2URL: https://datasheet.ciiva.com/2525/dcrcwe3-2525096.pdf?src-supplier=Digi-Key; ComponentLink2Description: https://datasheet.ciiva.com/2525/dcrcwe3-2525096.pdf?src-supplier=Digi-Key; ComponentLink3URL: https://datasheet.ciiva.com/2525/dcrcwe3-2525097.pdf?src-supplier=Digi-Key; ComponentLink3Description: https://datasheet.ciiva.com/2525/dcrcwe3-2525097.pdf?src-supplier=Digi-Key; ComponentLink4URL: https://datasheet.ciiva.com/3258/dcrcwe3-3258442.pdf?src-supplier=Avnet; ComponentLink4Description: https://datasheet.ciiva.com/3258/dcrcwe3-3258442.pdf?src-supplier=Avnet; ComponentLink5URL: https://datasheet.ciiva.com/3258/dcrcwe3-3258443.pdf?src-supplier=Avnet; ComponentLink5Description: https://datasheet.ciiva.com/3258/dcrcwe3-3258443.pdf?src-supplier=Avnet; ComponentLink6URL: https://datasheet.ciiva.com/16392/dcrcw-16392315.pdf?src-supplier=Future+Electronics; ComponentLink6Description: https://datasheet.ciiva.com/16392/dcrcw-16392315.pdf?src-supplier=Future+Electronics
footprint R2.4kohm
pins: 1, 2

## CRCW080510K0JNEAC
designator R?, comment 10kR
Res Thick Film 0805 10K Ohm 5% 1/8W ±200ppm/°C Molded SMD Paper T/R; Manufacturer: Vishay Semiconductors; Manufacturer Part Number: CRCW080510K0JNEAC; Power Rating: 125mW; Supplier 1: Digi-Key; Supplier Part Number 1: 541-4163-1-ND; RoHS: Yes; Category: Resistors; Stock 1: 146; Pricing 1: 1=0,10000, 10=0,04000, 100=0,01630, 1000=0,00731, 2500=0,00635 (USD); Mount: Surface Mount; Case/Package: SMD/SMT; Contact Plating: Tin; Min Operating Temperature: -55°C; Max Operating Temperature: 155°C; Resistor Type: Thick Film; Termination: Wraparound; Resistance: 10kR; Tolerance: 5%; Temperature Coefficient: 200ppm/°C; Length: 2mm; Lead Free: Lead Free; RoHS Compliant: Yes; ComponentLink1URL: http://www.vishay.com/docs/20035/dcrcwe3.pdf?src-supplier=Avnet+Asia; ComponentLink1Description: http://www.vishay.com/docs/20035/dcrcwe3.pdf?src-supplier=Avnet+Asia; ComponentLink2URL: http://www.vishay.com/docs/28773/crcwce3.pdf?src-supplier=Digi-Key; ComponentLink2Description: http://www.vishay.com/docs/28773/crcwce3.pdf?src-supplier=Digi-Key
footprint R10kOhm
pins: 1, 2

## CRCW0805100KJNEB
designator R?, comment 100kR
Res Thick Film 0805 100K Ohm 5% 1/8W 200ppm/C Molded SMD SMD Paper T/R; Manufacturer: Vishay Dale; Manufacturer Part Number: CRCW0805100KJNEB; Power Rating: 125mW; Voltage Rating: 150V; Temperature Coefficient: 200ppm/°C; Supplier 1: Digi-Key; Supplier Part Number 1: 541-CRCW0805100KJNEBCT-ND; RoHS: Yes; Category: Chip SMD Resistors; Stock 1: 14812; Pricing 1: 1=0,10000, 10=0,04200, 100=0,01700, 1000=0,00762, 2500=0,00661, 5000=0,00546 (USD); Case/Package: 0805; Number of Pins: 2; Weight: 0.000194oz; Case Code (Imperial): 0805; Case Code (Metric): 2012; Contact Plating: Tin; Min Operating Temperature: -55°C; Max Operating Temperature: 155°C; Resistance: 100kR; Tolerance: 5%; Packaging: Tape and Reel; Package Quantity: 10000; Resistor Type: Thick Film; Number of Terminations: 2; Max Power Dissipation: 125mW; Voltage Rating (DC): 150V; Features: Automotive AEC-Q200; Series: CRCW; Resistance Tolerance: 5%; Length: 0.079inch; Width: 0.049inch; Height: 0.02inch; Radiation Hardening: No; REACH SVHC: Unknown; Lead Free: Lead Free; RoHS Compliant: Yes; ComponentLink1URL: https://datasheet.ciiva.com/5543/dcrcwe3-109170-5543783.pdf?src-supplier=Mouser; ComponentLink1Description: https://datasheet.ciiva.com/5543/dcrcwe3-109170-5543783.pdf?src-supplier=Mouser; ComponentLink2URL: https://datasheet.ciiva.com/8982/dcrcwe3-8982399.pdf?src-supplier=Avnet; ComponentLink2Description: https://datasheet.ciiva.com/8982/dcrcwe3-8982399.pdf?src-supplier=Avnet
footprint R100kOhm
pins: 1, 2

## CRCW0805220KJNEA
designator R?, comment 220kR
RES SMD 220K OHM 5% 1/8W 0805; Manufacturer: Vishay Dale; Manufacturer Part Number: CRCW0805220KJNEA; Power Rating: 125mW; Voltage Rating: 150V; Temperature Coefficient: 200ppm/°C; Supplier 1: Digi-Key; Supplier Part Number 1: 541-220KACT-ND; RoHS: Yes; Category: Chip SMD Resistors; Stock 1: 1120; Pricing 1: 1=0,10000, 10=0,04200, 100=0,01700, 1000=0,00762, 2500=0,00661 (USD); Mount: Surface Mount; Case/Package: 0805; Weight: 0.000194oz; Case Code (Metric): 2012; Case Code (Imperial): 0805; Contact Plating: Tin; Size Code: 0805; Min Operating Temperature: -55°C; Max Operating Temperature: 155°C; Package Quantity: 1; Resistance: 220kR; Tolerance: 5%; Packaging: Tape and Reel; Resistor Type: Thick Film; Number of Terminations: 2; Termination: SMD/SMT; Max Power Dissipation: 125mW; Voltage Rating (DC): 150V; Features: Automotive AEC-Q200; Series: CRCW; Construction: Rectangular; Resistance Tolerance: 5%; Length: 2mm; Width: 0.049inch; Height: 0.02inch; Depth: 1.25mm; Radiation Hardening: No; REACH SVHC: Unknown; Military Standard: Not; Lead Free: Lead Free; RoHS Compliant: Yes; ComponentLink1URL: https://datasheet.ciiva.com/2464/dcrcwe3-2464864.pdf?src-supplier=Digi-Key; ComponentLink1Description: https://datasheet.ciiva.com/2464/dcrcwe3-2464864.pdf?src-supplier=Digi-Key; ComponentLink2URL: https://datasheet.ciiva.com/2464/dcrcwe3-2464865.pdf?src-supplier=Digi-Key; ComponentLink2Description: https://datasheet.ciiva.com/2464/dcrcwe3-2464865.pdf?src-supplier=Digi-Key; ComponentLink3URL: https://datasheet.ciiva.com/2464/dcrcwe3-2464866.pdf?src-supplier=Digi-Key; ComponentLink3Description: https://datasheet.ciiva.com/2464/dcrcwe3-2464866.pdf?src-supplier=Digi-Key; ComponentLink4URL: https://datasheet.ciiva.com/3258/dcrcwe3-3258325.pdf?src-supplier=Avnet; ComponentLink4Description: https://datasheet.ciiva.com/3258/dcrcwe3-3258325.pdf?src-supplier=Avnet; ComponentLink5URL: https://datasheet.ciiva.com/17166/dcrcwe3-17166711.pdf?src-supplier=Avnet+Europe; ComponentLink5Description: https://datasheet.ciiva.com/17166/dcrcwe3-17166711.pdf?src-supplier=Avnet+Europe; ComponentLink6URL: https://datasheet.ciiva.com/28606/1747939-28606759.pdf?src-supplier=Element14; ComponentLink6Description: https://datasheet.ciiva.com/28606/1747939-28606759.pdf?src-supplier=Element14; ComponentLink7URL: https://datasheet.ciiva.com/16498/dcrcw-16498286.pdf?src-supplier=Future+Electronics; ComponentLink7Description: https://datasheet.ciiva.com/16498/dcrcw-16498286.pdf?src-supplier=Future+Electronics
footprint R220kOhm
pins: 1, 2

## EEEFK1C471P
designator C?, comment 470uF
PANASONIC - EEEFK1C471P - SMD Aluminum Electrolytic Capacitor, Radial Can - SMD, 470 µF, 16 V, FK Series, 2000 hours @ 105°C; Dielectric Material: Aluminium; Voltage Rating: 16V; Ripple Current: 600mA; Tolerance: 20%; Leakage Current: 3uA; ESR (Equivalent Series Resistance): 160mR; Supplier 1: RSComponents; Supplier Part Number 1: 5370477P; Manufacturer: Panasonic; Manufacturer Part Number: EEEFK1C471P; RoHS: Yes; Category: Aluminum Electrolytic Capacitors; Stock 1: 30580; Pricing 1: 50=0,38600, 150=0,32900 (USD); Mount: Surface Mount,PCB; Case/Package: Radial; Number of Pins: 2; Contact Plating: Tin; Material: Aluminium; Min Operating Temperature: -55°C; Max Operating Temperature: 105°C; Capacitance: 470uF; Packaging: Tape and Reel; Package Quantity: 1; Voltage Rating (DC): 16V; Life (Hours): 2000Hour; Termination: SMD/SMT; Ripple Current (AC): 600mA; Series: FK; Construction: Cylindrical; Voltage: 16V; Impedance: 160mR; Diameter: 8mm; Length: 10.2mm; Width: 10mm; Height: 10.2mm; Height - Seated (Max): 0.402inch; Radiation Hardening: No; REACH SVHC: No SVHC; Lead Free: Lead Free; RoHS Compliant: Yes; ComponentLink1URL: https://datasheet.ciiva.com/11777/0900766b80e4e8b0-11777355.pdf?src-supplier=RSComponents; ComponentLink1Description: https://datasheet.ciiva.com/11777/0900766b80e4e8b0-11777355.pdf?src-supplier=RSComponents; ComponentLink2URL: https://datasheet.ciiva.com/29313/443466-da-01-en-smd-elko-vfk-f-470-uf-16v-29313494.pdf?src-supplier=Conrad; ComponentLink2Description: https://datasheet.ciiva.com/29313/443466-da-01-en-smd-elko-vfk-f-470-uf-16v-29313494.pdf?src-supplier=Conrad; ComponentLink3URL: https://datasheet.ciiva.com/15165/getdatasheetpartid-85020-15165862.pdf?src-supplier=Verical; ComponentLink3Description: https://datasheet.ciiva.com/15165/getdatasheetpartid-85020-15165862.pdf?src-supplier=Verical; ComponentLink4URL: https://datasheet.ciiva.com/2983/aba0000ce120-2983946.pdf?src-supplier=Avnet; ComponentLink4Description: https://datasheet.ciiva.com/2983/aba0000ce120-2983946.pdf?src-supplier=Avnet; ComponentLink5URL: https://datasheet.ciiva.com/14592/70258115-14592955.pdf?src-supplier=Allied+Electronics; ComponentLink5Description: https://datasheet.ciiva.com/14592/70258115-14592955.pdf?src-supplier=Allied+Electronics; ComponentLink6URL: https://datasheet.ciiva.com/6121/1676921-6121148.pdf?src-supplier=Farnell; ComponentLink6Description: https://datasheet.ciiva.com/6121/1676921-6121148.pdf?src-supplier=Farnell; ComponentLink7URL: https://datasheet.ciiva.com/14595/70258115-14595868.pdf?src-supplier=Allied+Electronics; ComponentLink7Description: https://datasheet.ciiva.com/14595/70258115-14595868.pdf?src-supplier=Allied+Electronics; ComponentLink8URL: https://datasheet.ciiva.com/30213/aba0000ce120-30213244.pdf?src-supplier=Onlinecomponents.com; ComponentLink8Description: https://datasheet.ciiva.com/30213/aba0000ce120-30213244.pdf?src-supplier=Onlinecomponents.com; ComponentLink9URL: https://datasheet.ciiva.com/46376/1676921-46376492.pdf?src-supplier=Element14; ComponentLink9Description: https://datasheet.ciiva.com/46376/1676921-46376492.pdf?src-supplier=Element14; ComponentLink10URL: https://datasheet.ciiva.com/2985/aba0000ce120-2985405.pdf?src-supplier=Avnet; ComponentLink10Description: https://datasheet.ciiva.com/2985/aba0000ce120-2985405.pdf?src-supplier=Avnet; ComponentLink11URL: https://datasheet.ciiva.com/25899/aba0000ce120-25899342.pdf?src-supplier=Avnet+Europe; ComponentLink11Description: https://datasheet.ciiva.com/25899/aba0000ce120-25899342.pdf?src-supplier=Avnet+Europe
footprint ElectrolyticCap
pins: + 2, - 1